# EAGLE library part MTH- (library pswitch40)
E-Switch MTH pushbutton switch
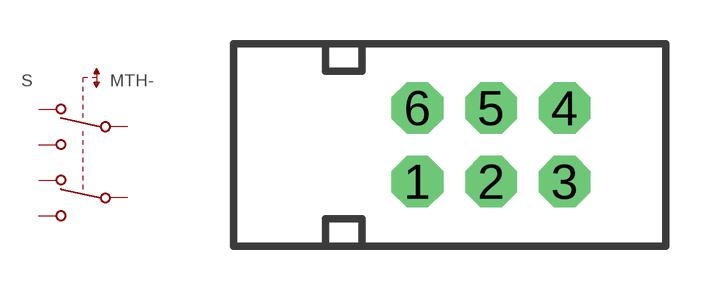
[diagram p3: symbol with the pads of MTH; footprint MTH]

Designator prefix S

## MTH-2U  [MTH]
1  1  pas
2  2  pas
3  3  pas
4  4  pas
5  5  pas
6  6  pas

## Footprint MTH (pad centres in mm)
E-Switch MTH Series Pushbutton
drill 0.813 pad 1.778 octagon: 1 -2.54,-1.27; 2 0,-1.27; 3 2.54,-1.27; 4 2.54,1.27; 5 0,1.27; 6 -2.54,1.27